# Altium footprint library Pin AA x2.PcbLib: 2 footprints
Each footprint in its own frame and in the unit in brackets; x right, y up, seen from the top. Pads: shape width x height; smd on the part's side, far side on the other; paste and mask are expansions set on the pad; w line width, h text height; cw(c..) or ccw(c..) is an arc to the next point about the centre after c.
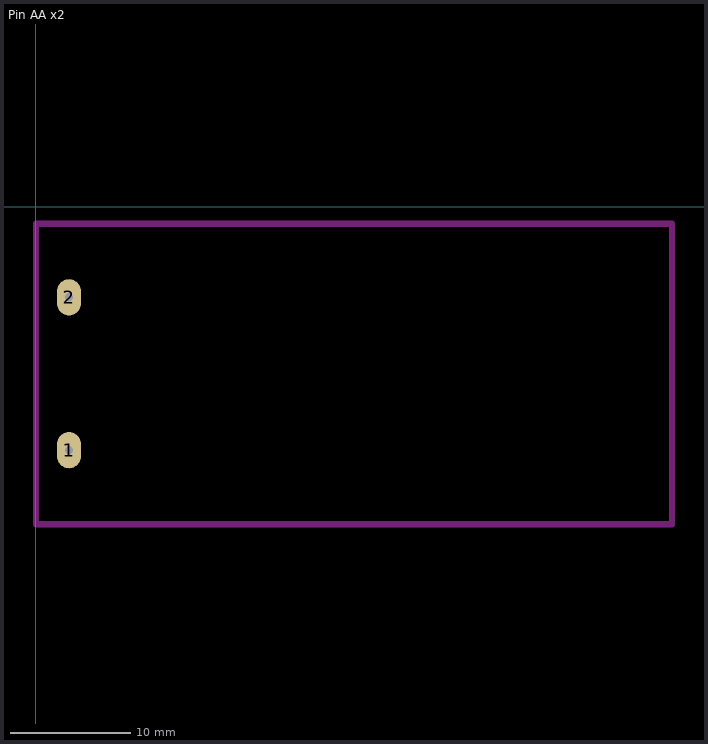
[diagram p0: the footprints below, top view; thin cyan lines are the x and y axes]

## PCBComponent_1 [mm]

## Pin AA x2 [mm]
pads (2):
  oval 2x3 hole 0.7: 1(2.75,-20.15) 2(2.75,-7.493)
Keep-Out Layer:
  lines w0.508: 0,-26.289 52.705,-26.289 52.705,-1.397 0,-1.397 0,-26.289
3D body: height 7.38, standoff -5.62, extent 0.002,-25.908 52.806,-1.408